# EAGLE library part 55917-2210 (library con-molex_MOD)
2.00mm Pitch MicroClasp™ Wire-to-Board Header, Dual Row, Vertical, 22 Circuits, with PCB Locator
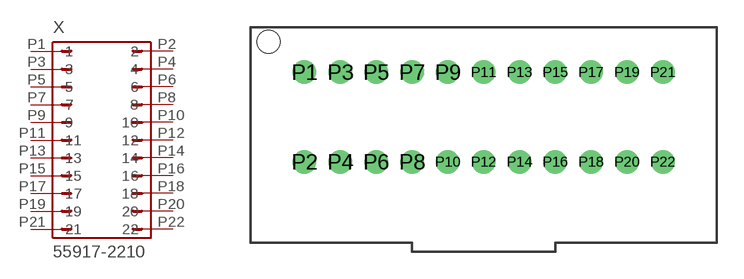
[diagram p226: symbol with the pads of 55917-2210; footprint 55917-2210]

Designator prefix X

## 55917-2210  [55917-2210]
P1  1  pas
P2  2  pas
P3  3  pas
P4  4  pas
P5  5  pas
P6  6  pas
P7  7  pas
P8  8  pas
P9  9  pas
P10  10  pas
P11  11  pas
P12  12  pas
P13  13  pas
P14  14  pas
P15  15  pas
P16  16  pas
P17  17  pas
P18  18  pas
P19  19  pas
P20  20  pas
P21  21  pas
P22  22  pas

## Footprint 55917-2210 (pad centres in mm)
drill 0.8: P1 -10,2.5; P2 -10,-2.5; P3 -8,2.5; P4 -8,-2.5; P5 -6,2.5; P6 -6,-2.5; P7 -4,2.5; P8 -4,-2.5; P9 -2,2.5; P10 -2,-2.5; P11 0,2.5; P12 0,-2.5; P13 2,2.5; P14 2,-2.5; P15 4,2.5; P16 4,-2.5; P17 6,2.5; P18 6,-2.5; P19 8,2.5; P20 8,-2.5; P21 10,2.5; P22 10,-2.5
hole 1.3 at -12,4.2